# EAGLE library part ALD110 (library NewSDR)
Advanced Linear Devices Quad Matched EPAD MOSFET
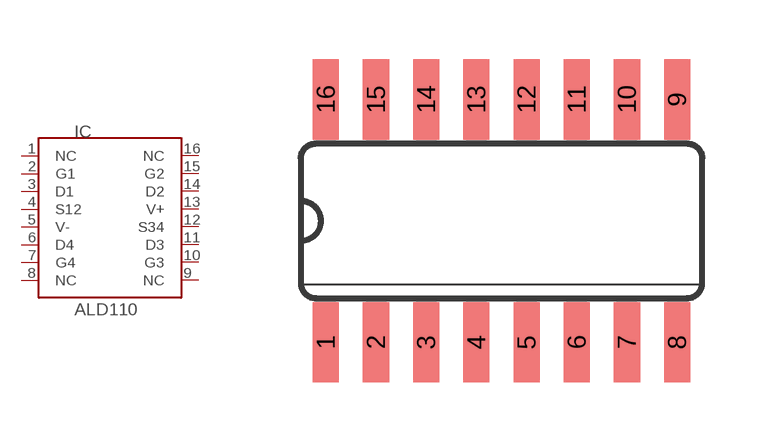
[diagram p87: symbol with the pads of SO16; footprint SO16]

Designator prefix IC

## ALD110800SC, ALD110802SC, ALD110804SC, ALD110808SC, ALD110814SC, ALD110900SC, ALD110902SC, ALD110904SC, ALD110908SC, ALD110914SC  [SO16]
1  NC  pas
2  G1  pas
3  D1  pas
4  S12  pas
5  V-  pwr
6  D4  pas
7  G4  pas
8  NC  pas
9  NC  pas
10  G3  pas
11  D3  pas
12  S34  pas
13  V+  pwr
14  D2  pas
15  G2  pas
16  NC  pas

## Footprint SO16 (pad centres in mm)
Small Outline package 150 mil
smd 0.66 x 2.032: 1 -4.445,-3.073; 2 -3.175,-3.073; 3 -1.905,-3.073; 4 -0.635,-3.073; 5 0.635,-3.073; 6 1.905,-3.073; 7 3.175,-3.073; 8 4.445,-3.073; 9 4.445,3.073; 10 3.175,3.073; 11 1.905,3.073; 12 0.635,3.073; 13 -0.635,3.073; 14 -1.905,3.073; 15 -3.175,3.073; 16 -4.445,3.073